# Altium schematic symbol library Diodes.SchLib: 13 symbols
Pins are listed as number, name and electrical type; pins without a type are passive.

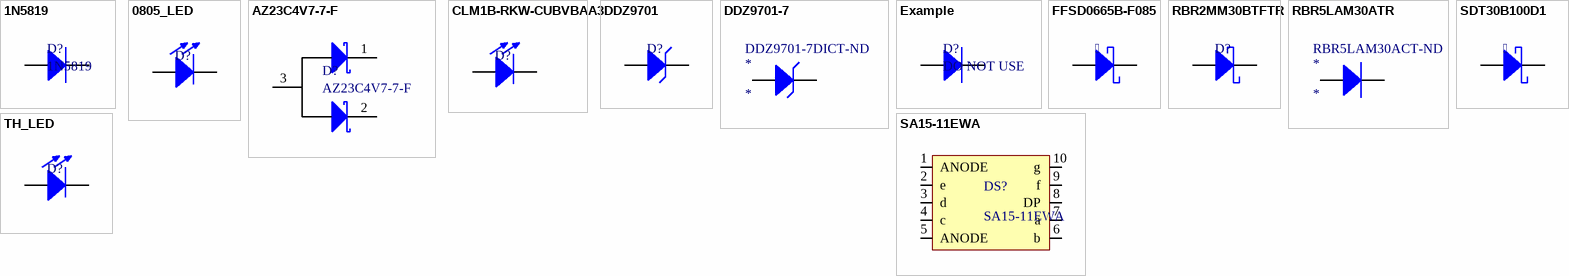
[diagram p0: symbols 1N5819 to TH_LED]

## 1N5819
designator D?
Diode Super Barrier 40V 1A Surface Mount SOD-123F; Num_Circuits: 1; Vr: 40V; Package: SOD-123F; ComponentLink1Description: Digikey; ComponentLink1URL: https://www.digikey.com/product-detail/en/diodes-incorporated/1N5819HW1-7-F/1N5819HW1-7-FDITR-ND/5768523
footprint SOD-123F (SODFL, 2-Leads, Body 1.80x3.50mm, IPC Medium Density)
pins: 1, 2

## 0805_LED
designator D?
Generic 0805 LED
footprint 0805_LED
pins: 1 A, 2 K

## AZ23C4V7-7-F
designator D?
DIODE ZENER ARRAY 4.7V SOT23-3; Num_Circuits: 2; Vr: 4.7V; Package: SOT23-3; ComponentLink1Description: Digikey; ComponentLink1URL: https://www.digikey.com/product-detail/en/diodes-incorporated/AZ23C4V7-7-F/AZ23C4V7-FDICT-ND/815309
footprint SOT23-3 (SOT23, 3-Leads, Body 2.92x2.37mm, Pitch 0.95mm, IPC Medium Density, NUP2105L)
pins: 1, 2, 3

## CLM1B-RKW-CUBVBAA3
designator D?  (value not drawn)
Red 624nm LED Indication - Discrete 2.1V 2-PLCC
footprint 2-PLCC_3.2MMx2.8MM (Molded Diode, 2-Leads, Body 3.20x2.80mm, IPC Medium Density)
pins: 1 A, 2 K

## DDZ9701
designator D?
Zener Diode 14V 500mW ±5% Surface Mount SOD-1; Vr: 10.6; Num_Circuits: 1; Package: SOD-123; ComponentLink1Description: Digikey; ComponentLink1URL: https://www.digikey.com/product-detail/en/diodes-incorporated/DDZ9701-7/DDZ9701-7DICT-ND/3877402
footprint SOD-123 (SODFL, 2-Leads, Body 1.55x3.70mm, IPC Medium Density)
pins: 1 K, 2 A

## DDZ9701-7
designator *  Supplier Part Number 1: DDZ9701-7DICT-ND
Diode Zener Single 14V 5% 500mW 2-Pin SOD-123 T/R; Manufacturer: Diodes; Manufacturer Part Number: DDZ9701-7; Max Reverse Leakage Current: 50nA; Test Current: 50uA; Forward Voltage: 900mV; Supplier 1: Digi-Key; RoHS: Yes; Category: Zener Diodes; Stock 1: 3472; Pricing 1: 1=0.27000, 10=0.21700, 25=0.18200, 100=0.08890, 250=0.08748, 500=0.07414, 1000=0.05151 (USD); Mount: Surface Mount; Case/Package: SOD-123-2; Number of Pins: 2; Weight: 0.000353oz; Min Operating Temperature: -65°C; Max Operating Temperature: 150°C; Zener Voltage: 14V; Max Power Dissipation: 500mW; Element Configuration: Single; Voltage Tolerance: 5%; Zener Current: 50nA; Peak Reverse Current: 50nA; Power Dissipation: 500mW; Package Quantity: 3000; Packaging: Tape and Reel; Tolerance: 5%; Power Rating: 500mW; Length: 3.85mm; Height: 1.35mm; Width: 1.7mm; Radiation Hardening: No; REACH SVHC: No SVHC; ComponentLink1URL: https://datasheet.ciiva.com/17266/ds30410-17266299.pdf?src-supplier=Avnet+Europe; ComponentLink1Description: https://datasheet.ciiva.com/17266/ds30410-17266299.pdf?src-supplier=Avnet+Europe
footprint SOD-123 (SODFL, 2-Leads, Body 1.55x3.70mm, IPC Medium Density)
pins: 1 K, 2 A

## Example
designator D?, comment DO NOT USE
Vr: *; Num_Circuits: *; Package: *
pins: 1 A, 2 K

## FFSD0665B-F085
designator   (value not drawn)
Diode Silicon Carbide Schottky 650 V 9.1A (DC) Surface Mount D-PAK (TO-252); Vr: 650; Num_Circuits: 1; Package: TO-252 (D-PAK); ComponentLink1Description: Digikey; ComponentLink1URL: https://www.digikey.com/en/products/detail/onsemi/FFSD0665B-F085/10415168; ComponentLink2Description: Datasheet; ComponentLink2URL: https://www.onsemi.com/pdf/datasheet/ffsd0665b-f085-d.pdf
footprint DPAK3_TO-252-3 (D-PAK, 3-Pads, Body 6.21x6.73mm (max), IPC Medium Density)
pins: 1 K, 3 A, 4 K

## RBR2MM30BTFTR
designator D?  (value not drawn)
Diode Schottky 30 V 2A Surface Mount SOD-123F; Vr: 30; Num_Circuits: 1; Vf: 490 mV @ 2 A; Package: SOD-123F; ComponentLink1Description: Digikey; ComponentLink1URL: https://www.digikey.com/en/products/detail/rohm-semiconductor/RBR2MM30BTFTR/9748137
footprint SOD-123F (SODFL, 2-Leads, Body 1.80x3.50mm, IPC Medium Density)
pins: 1 K, 2 A

## RBR5LAM30ATR
designator *  Supplier Part Number 1: RBR5LAM30ACT-ND
Schottky Rectifier, 30V, 5A, Sod-128 Rohs Compliant: Yes; Manufacturer: Rohm; Manufacturer Part Number: RBR5LAM30ATR; Supplier 1: Digi-Key; RoHS: No; Stock 1: 23687; Pricing 1: 1=0.45000, 10=0.38900, 25=0.36280, 100=0.26960, 250=0.25612, 500=0.21052, 1000=0.17111 (USD); Mount: Surface Mount; Packaging: Tape and Reel; Max Reverse Voltage (DC): 30V; Average Rectified Current: 5A; ComponentLink1URL: https://www.rohm.com/datasheet/RBR5LAM30A/rbr5lam30atr-e?src-supplier=Digi-Key; ComponentLink1Description: https://www.rohm.com/datasheet/RBR5LAM30A/rbr5lam30atr-e?src-supplier=Digi-Key
footprint SOD-128
pins: 1 A, 2 K

## SA15-11EWA
designator DS?
7SEG DISPLAY 1DIGIT RED 1.5" CA; Vf: 4; ComponentLink1Description: Digikey; ComponentLink1URL: https://www.digikey.com/short/pdvmpz
footprint SA15-11EWA
pins: 1 ANODE, 2 e, 3 d, 4 c, 5 ANODE, 6 b, 7 a, 8 DP, 9 f, 10 g

## SDT30B100D1
designator   (value not drawn)
Diode Schottky 100 V 30A Surface Mount TO-252-3; Vr: 100; Num_Circuits: 1; Package: TO-252 (D-PAK); ComponentLink1Description: Digikey; ComponentLink1URL: https://www.digikey.com/en/products/detail/diodes-incorporated/SDT30B100D1-13/7667006; ComponentLink2Description: Datasheet; ComponentLink2URL: https://www.diodes.com/assets/Datasheets/SDT30B100D1.pdf
footprint DPAK3_TO-252-3 (D-PAK, 3-Pads, Body 6.21x6.73mm (max), IPC Medium Density)
pins: 1 A, 3 A, 4 K

## TH_LED
designator D?
Generic Through Hole LED
footprint TH_LED
pins: 1 A, 2 K